# Altium schematic symbol library Sensor_Current.SchLib: 253 symbols (part 3 of 3)
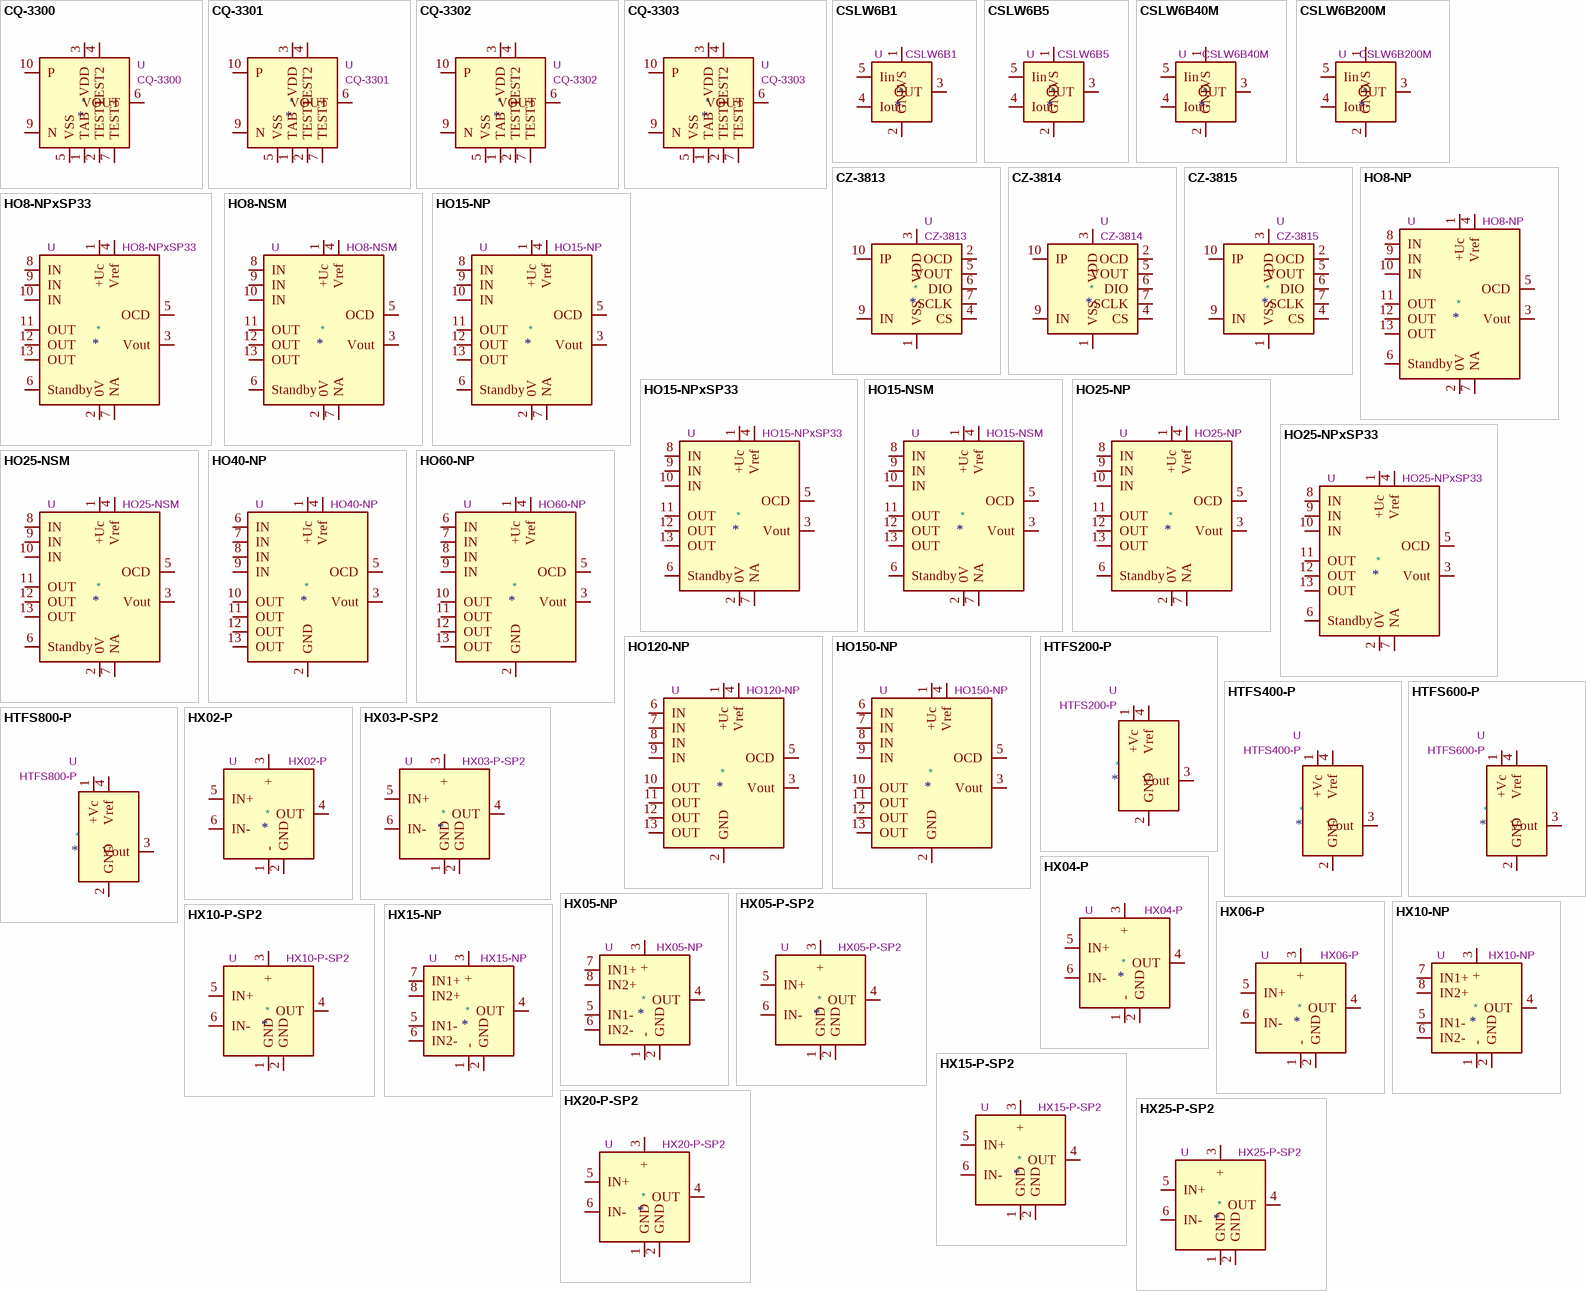
[diagram p8: symbols CQ-3300 to HX25-P-SP2]

## CSLW6B5
designator *  value CSLW6B5  Reference: U
ki_keywords: hall current sensor; ki_description: Miniature Wired Open-Loop Current Sensors, 5A; ki_fp_filters: Honeywell*CSLW*; Footprint: Sensor_Current:Honeywell_CSLW; Datasheet: https://sensing.honeywell.com/honeywell-sensing-cslw-series-product-sheet-005861-1-en.pdf
pins: 1 VS, 2 GND, 3 OUT, 4 Iout, 5 Iin

## CSLW6B40M
designator *  value CSLW6B40M  Reference: U
ki_keywords: hall current sensor; ki_description: Miniature Wired Open-Loop Current Sensors, 40mA; ki_fp_filters: Honeywell*CSLW*; Footprint: Sensor_Current:Honeywell_CSLW; Datasheet: https://sensing.honeywell.com/honeywell-sensing-cslw-series-product-sheet-005861-1-en.pdf
pins: 1 VS, 2 GND, 3 OUT, 4 Iout, 5 Iin

## CSLW6B200M
designator *  value CSLW6B200M  Reference: U
ki_keywords: hall current sensor; ki_description: Miniature Wired Open-Loop Current Sensors, 200mA; ki_fp_filters: Honeywell*CSLW*; Footprint: Sensor_Current:Honeywell_CSLW; Datasheet: https://sensing.honeywell.com/honeywell-sensing-cslw-series-product-sheet-005861-1-en.pdf
pins: 1 VS, 2 GND, 3 OUT, 4 Iout, 5 Iin

## CZ-3813
designator *  value CZ-3813  Reference: U
ki_keywords: hall effect current sensor; ki_description: Coreless Current Sensor, Bidirectional, -33.0A to +33.0A, 60mV/A, VSOP-24; ki_fp_filters: AKM*CZ*SSOP*6.5x8.1mm*P0.95mm*; Footprint: Sensor_Current:AKM_CZ_SSOP-10_6.5x8.1mm_P0.95mm; Datasheet: http://www.akm.com/akm/en/file/datasheet/CZ-3813.pdf
pins: 1 VSS, 2 OCD, 3 VDD, 4 CS, 5 VOUT, 6 DIO, 7 SCLK, 8 VSS hidden, 9 IN, 10 IP

## CZ-3814
designator *  value CZ-3814  Reference: U
ki_keywords: hall effect current sensor; ki_description: Coreless Current Sensor, Bidirectional, -50.0A to +50.0A, 40mV/A, VSOP-24; ki_fp_filters: AKM*CZ*SSOP*6.5x8.1mm*P0.95mm*; Footprint: Sensor_Current:AKM_CZ_SSOP-10_6.5x8.1mm_P0.95mm; Datasheet: http://www.akm.com/akm/en/file/datasheet/CZ-3814.pdf
pins: 1 VSS, 2 OCD, 3 VDD, 4 CS, 5 VOUT, 6 DIO, 7 SCLK, 8 VSS hidden, 9 IN, 10 IP

## CZ-3815
designator *  value CZ-3815  Reference: U
ki_keywords: hall effect current sensor; ki_description: Coreless Current Sensor, Bidirectional, -60.0A to +60.0A, 33mV/A, VSOP-24; ki_fp_filters: AKM*CZ*SSOP*6.5x8.1mm*P0.95mm*; Footprint: Sensor_Current:AKM_CZ_SSOP-10_6.5x8.1mm_P0.95mm; Datasheet: http://www.akm.com/akm/en/file/datasheet/CZ-3815.pdf
pins: 1 VSS, 2 OCD, 3 VDD, 4 CS, 5 VOUT, 6 DIO, 7 SCLK, 8 VSS hidden, 9 IN, 10 IP

## HO8-NP
designator *  value HO8-NP  Reference: U
ki_keywords: current transducer; ki_description: Current Transducer, 8A, Unipolar, 5V; ki_fp_filters: LEM*HO8*NP*; Footprint: Sensor_Current:LEM_HO8-NP; Datasheet: https://www.lem.com/sites/default/files/products_datasheets/ho-np-0000_series.pdf
pins: 1 +Uc, 2 0V, 3 Vout, 4 Vref, 5 OCD, 6 Standby, 7 NA, 8 IN, 9 IN, 10 IN, 11 OUT, 12 OUT, 13 OUT

## HO8-NPxSP33
designator *  value HO8-NPxSP33  Reference: U
ki_keywords: current transducer; ki_description: Current Transducer, 8A, Unipolar, 3.3V; ki_fp_filters: LEM*HO8*NP*; Footprint: Sensor_Current:LEM_HO8-NP; Datasheet: https://www.lem.com/sites/default/files/products_datasheets/ho-np_sp33-1000_series.pdf
pins: 1 +Uc, 2 0V, 3 Vout, 4 Vref, 5 OCD, 6 Standby, 7 NA, 8 IN, 9 IN, 10 IN, 11 OUT, 12 OUT, 13 OUT

## HO8-NSM
designator *  value HO8-NSM  Reference: U
ki_keywords: current transducer; ki_description: Current Transducer, 8A, Unipolar, 5V; ki_fp_filters: LEM*HO8*NSM*; Footprint: Sensor_Current:LEM_HO8-NSM; Datasheet: https://www.lem.com/sites/default/files/products_datasheets/ho-nsm-0000_series.pdf
pins: 1 +Uc, 2 0V, 3 Vout, 4 Vref, 5 OCD, 6 Standby, 7 NA, 8 IN, 9 IN, 10 IN, 11 OUT, 12 OUT, 13 OUT

## HO15-NP
designator *  value HO15-NP  Reference: U
ki_keywords: current transducer; ki_description: Current Transducer, 15A, Unipolar, 5V; ki_fp_filters: LEM*HO8*NP*; Footprint: Sensor_Current:LEM_HO8-NP; Datasheet: https://www.lem.com/sites/default/files/products_datasheets/ho-np-0000_series.pdf
pins: 1 +Uc, 2 0V, 3 Vout, 4 Vref, 5 OCD, 6 Standby, 7 NA, 8 IN, 9 IN, 10 IN, 11 OUT, 12 OUT, 13 OUT

## HO15-NPxSP33
designator *  value HO15-NPxSP33  Reference: U
ki_keywords: current transducer; ki_description: Current Transducer, 15A, Unipolar, 3.3V; ki_fp_filters: LEM*HO8*NP*; Footprint: Sensor_Current:LEM_HO8-NP; Datasheet: https://www.lem.com/sites/default/files/products_datasheets/ho-np_sp33-1000_series.pdf
pins: 1 +Uc, 2 0V, 3 Vout, 4 Vref, 5 OCD, 6 Standby, 7 NA, 8 IN, 9 IN, 10 IN, 11 OUT, 12 OUT, 13 OUT

## HO15-NSM
designator *  value HO15-NSM  Reference: U
ki_keywords: current transducer; ki_description: Current Transducer, 15A, Unipolar, 5V; ki_fp_filters: LEM*HO8*NSM*; Footprint: Sensor_Current:LEM_HO8-NSM; Datasheet: https://www.lem.com/sites/default/files/products_datasheets/ho-nsm-0000_series.pdf
pins: 1 +Uc, 2 0V, 3 Vout, 4 Vref, 5 OCD, 6 Standby, 7 NA, 8 IN, 9 IN, 10 IN, 11 OUT, 12 OUT, 13 OUT

## HO25-NP
designator *  value HO25-NP  Reference: U
ki_keywords: current transducer; ki_description: Current Transducer, 25A, Unipolar, 5V; ki_fp_filters: LEM*HO8*NP*; Footprint: Sensor_Current:LEM_HO8-NP; Datasheet: https://www.lem.com/sites/default/files/products_datasheets/ho-np-0000_series.pdf
pins: 1 +Uc, 2 0V, 3 Vout, 4 Vref, 5 OCD, 6 Standby, 7 NA, 8 IN, 9 IN, 10 IN, 11 OUT, 12 OUT, 13 OUT

## HO25-NPxSP33
designator *  value HO25-NPxSP33  Reference: U
ki_keywords: current transducer; ki_description: Current Transducer, 25A, Unipolar, 3.3V; ki_fp_filters: LEM*HO8*NP*; Footprint: Sensor_Current:LEM_HO8-NP; Datasheet: https://www.lem.com/sites/default/files/products_datasheets/ho-np_sp33-1000_series.pdf
pins: 1 +Uc, 2 0V, 3 Vout, 4 Vref, 5 OCD, 6 Standby, 7 NA, 8 IN, 9 IN, 10 IN, 11 OUT, 12 OUT, 13 OUT

## HO25-NSM
designator *  value HO25-NSM  Reference: U
ki_keywords: current transducer; ki_description: Current Transducer, 25A, Unipolar, 5V; ki_fp_filters: LEM*HO8*NSM*; Footprint: Sensor_Current:LEM_HO8-NSM; Datasheet: https://www.lem.com/sites/default/files/products_datasheets/ho-nsm-0000_series.pdf
pins: 1 +Uc, 2 0V, 3 Vout, 4 Vref, 5 OCD, 6 Standby, 7 NA, 8 IN, 9 IN, 10 IN, 11 OUT, 12 OUT, 13 OUT

## HO40-NP
designator *  value HO40-NP  Reference: U
ki_keywords: current transducer; ki_description: Current Transducer, 40A, Unipolar, 5V; ki_fp_filters: LEM*HO40*NP*; Footprint: Sensor_Current:LEM_HO40-NP; Datasheet: https://www.lem.com/sites/default/files/products_datasheets/ho-np_0100__1100_series.pdf
pins: 1 +Uc, 2 GND, 3 Vout, 4 Vref, 5 OCD, 6 IN, 7 IN, 8 IN, 9 IN, 10 OUT, 11 OUT, 12 OUT, 13 OUT

## HO60-NP
designator *  value HO60-NP  Reference: U
ki_keywords: current transducer; ki_description: Current Transducer, 60A, Unipolar, 5V; ki_fp_filters: LEM*HO40*NP*; Footprint: Sensor_Current:LEM_HO40-NP; Datasheet: https://www.lem.com/sites/default/files/products_datasheets/ho-np_0100__1100_series.pdf
pins: 1 +Uc, 2 GND, 3 Vout, 4 Vref, 5 OCD, 6 IN, 7 IN, 8 IN, 9 IN, 10 OUT, 11 OUT, 12 OUT, 13 OUT

## HO120-NP
designator *  value HO120-NP  Reference: U
ki_keywords: current transducer; ki_description: Current Transducer, 40A, Unipolar, 5V; ki_fp_filters: LEM*HO40*NP*; Footprint: Sensor_Current:LEM_HO40-NP; Datasheet: https://www.lem.com/sites/default/files/products_datasheets/ho-np_0100__1100_series.pdf
pins: 1 +Uc, 2 GND, 3 Vout, 4 Vref, 5 OCD, 6 IN, 7 IN, 8 IN, 9 IN, 10 OUT, 11 OUT, 12 OUT, 13 OUT

## HO150-NP
designator *  value HO150-NP  Reference: U
ki_keywords: current transducer; ki_description: Current Transducer, 40A, Unipolar, 5V; ki_fp_filters: LEM*HO40*NP*; Footprint: Sensor_Current:LEM_HO40-NP; Datasheet: https://www.lem.com/sites/default/files/products_datasheets/ho-np_0100__1100_series.pdf
pins: 1 +Uc, 2 GND, 3 Vout, 4 Vref, 5 OCD, 6 IN, 7 IN, 8 IN, 9 IN, 10 OUT, 11 OUT, 12 OUT, 13 OUT

## HTFS200-P
designator *  value HTFS200-P  Reference: U
ki_keywords: current transducer; ki_description: Current Transducer, 200A, Unipolar, 5V; ki_fp_filters: LEM*HTFS*; Footprint: Sensor_Current:LEM_HTFS; Datasheet: https://www.lem.com/sites/default/files/products_datasheets/htfs_200_800-p.pdf
pins: 1 +Vc, 2 GND, 3 Vout, 4 Vref

## HTFS400-P
designator *  value HTFS400-P  Reference: U
ki_keywords: current transducer; ki_description: Current Transducer, 400A, Unipolar, 5V; ki_fp_filters: LEM*HTFS*; Footprint: Sensor_Current:LEM_HTFS; Datasheet: https://www.lem.com/sites/default/files/products_datasheets/htfs_200_800-p.pdf
pins: 1 +Vc, 2 GND, 3 Vout, 4 Vref

## HTFS600-P
designator *  value HTFS600-P  Reference: U
ki_keywords: current transducer; ki_description: Current Transducer, 600A, Unipolar, 5V; ki_fp_filters: LEM*HTFS*; Footprint: Sensor_Current:LEM_HTFS; Datasheet: https://www.lem.com/sites/default/files/products_datasheets/htfs_200_800-p.pdf
pins: 1 +Vc, 2 GND, 3 Vout, 4 Vref

## HTFS800-P
designator *  value HTFS800-P  Reference: U
ki_keywords: current transducer; ki_description: Current Transducer, 800A, Unipolar, 5V; ki_fp_filters: LEM*HTFS*; Footprint: Sensor_Current:LEM_HTFS; Datasheet: https://www.lem.com/sites/default/files/products_datasheets/htfs_200_800-p.pdf
pins: 1 +Vc, 2 GND, 3 Vout, 4 Vref

## HX02-P
designator *  value HX02-P  Reference: U
ki_keywords: current transducer; ki_description: Current Transducer, 2A, Bipolar, +/-15V; ki_fp_filters: LEM*HX02*P*; Footprint: Sensor_Current:LEM_HX02-P; Datasheet: https://www.lem.com/sites/default/files/products_datasheets/hx%202_6-p_e%20v5.pdf
pins: 1 -, 2 GND, 3 +, 4 OUT, 5 IN+, 6 IN-

## HX03-P-SP2
designator *  value HX03-P-SP2  Reference: U
ki_keywords: current transducer; ki_description: Current Transducer, 3A, Unipolar, +/-15V; ki_fp_filters: LEM*HX03*P*SP2*; Footprint: Sensor_Current:LEM_HX03-P-SP2; Datasheet: https://www.lem.com/sites/default/files/products_datasheets/hx%203_50-p_sp2_e%20v07.pdf
pins: 1 GND, 2 GND, 3 +, 4 OUT, 5 IN+, 6 IN-

## HX04-P
designator *  value HX04-P  Reference: U
ki_keywords: current transducer; ki_description: Current Transducer, 4A, Bipolar, +/-15V; ki_fp_filters: LEM*HX04*P*; Footprint: Sensor_Current:LEM_HX04-P; Datasheet: https://www.lem.com/sites/default/files/products_datasheets/hx%202_6-p_e%20v5.pdf
pins: 1 -, 2 GND, 3 +, 4 OUT, 5 IN+, 6 IN-

## HX05-NP
designator *  value HX05-NP  Reference: U
ki_keywords: current transducer; ki_description: Current Transducer, 5A, Bipolar, +/-15V; ki_fp_filters: LEM*HX05*NP*; Footprint: Sensor_Current:LEM_HX05-NP; Datasheet: https://www.lem.com/sites/default/files/products_datasheets/hx%205_15-np_e%20v10.pdf
pins: 1 -, 2 GND, 3 +, 4 OUT, 5 IN1-, 6 IN2-, 7 IN1+, 8 IN2+

## HX05-P-SP2
designator *  value HX05-P-SP2  Reference: U
ki_keywords: current transducer; ki_description: Current Transducer, 5A, Unipolar, +/-15V; ki_fp_filters: LEM*HX05*P*SP2*; Footprint: Sensor_Current:LEM_HX05-P-SP2; Datasheet: https://www.lem.com/sites/default/files/products_datasheets/hx%203_50-p_sp2_e%20v07.pdf
pins: 1 GND, 2 GND, 3 +, 4 OUT, 5 IN+, 6 IN-

## HX06-P
designator *  value HX06-P  Reference: U
ki_keywords: current transducer; ki_description: Current Transducer, 6A, Bipolar, +/-15V; ki_fp_filters: LEM*HX06*P*; Footprint: Sensor_Current:LEM_HX06-P; Datasheet: https://www.lem.com/sites/default/files/products_datasheets/hx%202_6-p_e%20v5.pdf
pins: 1 -, 2 GND, 3 +, 4 OUT, 5 IN+, 6 IN-

## HX10-NP
designator *  value HX10-NP  Reference: U
ki_keywords: current transducer; ki_description: Current Transducer, 10A, Bipolar, +/-15V; ki_fp_filters: LEM*HX10*NP*; Footprint: Sensor_Current:LEM_HX10-NP; Datasheet: https://www.lem.com/sites/default/files/products_datasheets/hx%205_15-np_e%20v10.pdf
pins: 1 -, 2 GND, 3 +, 4 OUT, 5 IN1-, 6 IN2-, 7 IN1+, 8 IN2+

## HX10-P-SP2
designator *  value HX10-P-SP2  Reference: U
ki_keywords: current transducer; ki_description: Current Transducer, 10A, Unipolar, +/-15V; ki_fp_filters: LEM*HX10*P*SP2*; Footprint: Sensor_Current:LEM_HX10-P-SP2; Datasheet: https://www.lem.com/sites/default/files/products_datasheets/hx%203_50-p_sp2_e%20v07.pdf
pins: 1 GND, 2 GND, 3 +, 4 OUT, 5 IN+, 6 IN-

## HX15-NP
designator *  value HX15-NP  Reference: U
ki_keywords: current transducer; ki_description: Current Transducer, 15A, Bipolar, +/-15V; ki_fp_filters: LEM*HX15*NP*; Footprint: Sensor_Current:LEM_HX15-NP; Datasheet: https://www.lem.com/sites/default/files/products_datasheets/hx%205_15-np_e%20v10.pdf
pins: 1 -, 2 GND, 3 +, 4 OUT, 5 IN1-, 6 IN2-, 7 IN1+, 8 IN2+

## HX15-P-SP2
designator *  value HX15-P-SP2  Reference: U
ki_keywords: current transducer; ki_description: Current Transducer, 15A, Unipolar, +/-15V; ki_fp_filters: LEM*HX15*P*SP2*; Footprint: Sensor_Current:LEM_HX15-P-SP2; Datasheet: https://www.lem.com/sites/default/files/products_datasheets/hx%203_50-p_sp2_e%20v07.pdf
pins: 1 GND, 2 GND, 3 +, 4 OUT, 5 IN+, 6 IN-

## HX20-P-SP2
designator *  value HX20-P-SP2  Reference: U
ki_keywords: current transducer; ki_description: Current Transducer, 20A, Unipolar, +/-15V; ki_fp_filters: LEM*HX20*P*SP2*; Footprint: Sensor_Current:LEM_HX20-P-SP2; Datasheet: https://www.lem.com/sites/default/files/products_datasheets/hx%203_50-p_sp2_e%20v07.pdf
pins: 1 GND, 2 GND, 3 +, 4 OUT, 5 IN+, 6 IN-

## HX25-P-SP2
designator *  value HX25-P-SP2  Reference: U
ki_keywords: current transducer; ki_description: Current Transducer, 25A, Unipolar, +/-15V; ki_fp_filters: LEM*HX25*P*SP2*; Footprint: Sensor_Current:LEM_HX25-P-SP2; Datasheet: https://www.lem.com/sites/default/files/products_datasheets/hx%203_50-p_sp2_e%20v07.pdf
pins: 1 GND, 2 GND, 3 +, 4 OUT, 5 IN+, 6 IN-

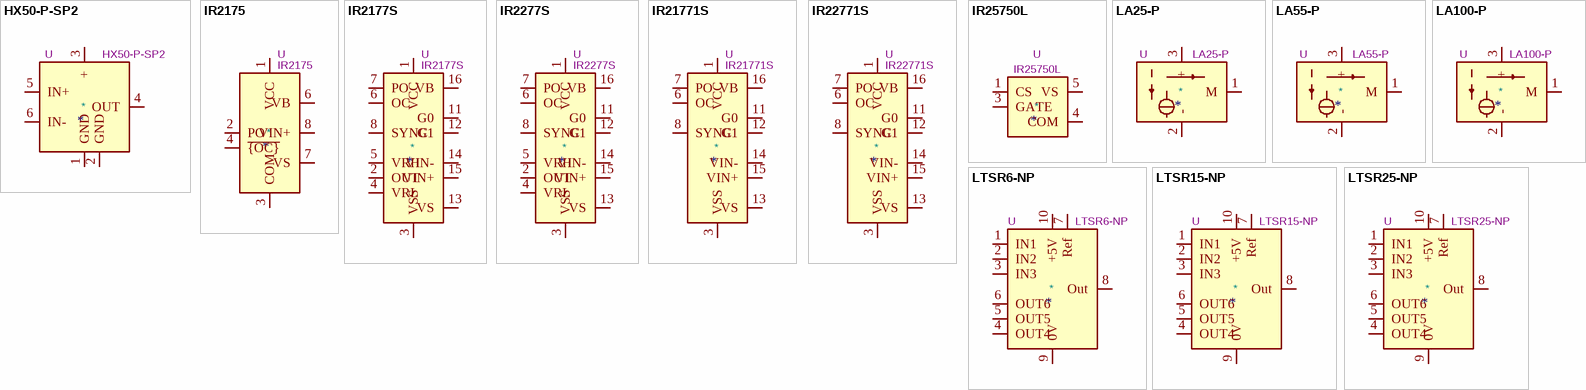
[diagram p6: symbols HX50-P-SP2 to LTSR25-NP]

## HX50-P-SP2
designator *  value HX50-P-SP2  Reference: U
ki_keywords: current transducer; ki_description: Current Transducer, 50A, Unipolar, +/-15V; ki_fp_filters: LEM*HX50*P*SP2*; Footprint: Sensor_Current:LEM_HX50-P-SP2; Datasheet: https://www.lem.com/sites/default/files/products_datasheets/hx%203_50-p_sp2_e%20v07.pdf
pins: 1 GND, 2 GND, 3 +, 4 OUT, 5 IN+, 6 IN-

## IR2175
designator *  value IR2175  Reference: U
ki_keywords: half bridge current sense; ki_description: Linear Current Sensing IC, PWM output, 600V, PDIP-8/SOIC-8; ki_fp_filters: SOIC*3.9x4.9mm*P1.27mm* DIP*W7.62mm*; Datasheet: https://www.infineon.com/dgdl/ir2175.pdf?fileId=5546d462533600a4015355c9161216c6
pins: 1 VCC, 2 PO, 3 COM, 4 ~{{OC}}, 5 NC hidden, 6 VB, 7 VS, 8 VIN+

## IR2177S
designator *  value IR2177S  Reference: U
ki_keywords: half bridge current sense; ki_description: Phase Current Sensor IC for AC Motor Control, PWM and ADC output, 600V, SOIC-16W; ki_fp_filters: SOIC*W*7.5x10.3mm*P1.27mm*; Footprint: Package_SO:SOIC-16W_7.5x10.3mm_P1.27mm; Datasheet: https://www.infineon.com/dgdl/ir2177s.pdf?fileId=5546d462533600a4015355c92e7416cb
pins: 1 VCC, 2 OUT, 3 VSS, 4 VRL, 5 VRH, 6 OC, 7 PO, 8 SYNC, 9 NC hidden, 10 NC hidden, 11 G0, 12 G1, 13 VS, 14 VIN-, 15 VIN+, 16 VB

## IR2277S
designator *  value IR2277S  Reference: U
ki_keywords: half bridge current sense; ki_description: Phase Current Sensor IC for AC Motor Control, PWM and ADC output, 1200V, SOIC-16W; ki_fp_filters: SOIC*W*7.5x10.3mm*P1.27mm*; Footprint: Package_SO:SOIC-16W_7.5x10.3mm_P1.27mm; Datasheet: https://www.infineon.com/dgdl/ir2177s.pdf?fileId=5546d462533600a4015355c92e7416cb
pins: 1 VCC, 2 OUT, 3 VSS, 4 VRL, 5 VRH, 6 OC, 7 PO, 8 SYNC, 9 NC hidden, 10 NC hidden, 11 G0, 12 G1, 13 VS, 14 VIN-, 15 VIN+, 16 VB

## IR21771S
designator *  value IR21771S  Reference: U
ki_keywords: half bridge current sense; ki_description: Phase Current Sensor IC for AC Motor Control, PWM output, 600V, SOIC-16W; ki_fp_filters: SOIC*W*7.5x10.3mm*P1.27mm*; Footprint: Package_SO:SOIC-16W_7.5x10.3mm_P1.27mm; Datasheet: https://www.infineon.com/dgdl/ir21771s.pdf?fileId=5546d462533600a4015355c9222c16c8
pins: 1 VCC, 2 NC hidden, 3 VSS, 4 NC hidden, 5 NC hidden, 6 OC, 7 PO, 8 SYNC, 9 NC hidden, 10 NC hidden, 11 G0, 12 G1, 13 VS, 14 VIN-, 15 VIN+, 16 VB

## IR22771S
designator *  value IR22771S  Reference: U
ki_keywords: half bridge current sense; ki_description: Phase Current Sensor IC for AC Motor Control, PWM output, 1200V, SOIC-16W; ki_fp_filters: SOIC*W*7.5x10.3mm*P1.27mm*; Footprint: Package_SO:SOIC-16W_7.5x10.3mm_P1.27mm; Datasheet: https://www.infineon.com/dgdl/ir21771s.pdf?fileId=5546d462533600a4015355c9222c16c8
pins: 1 VCC, 2 NC hidden, 3 VSS, 4 NC hidden, 5 NC hidden, 6 OC, 7 PO, 8 SYNC, 9 NC hidden, 10 NC hidden, 11 G0, 12 G1, 13 VS, 14 VIN-, 15 VIN+, 16 VB

## IR25750L
designator *  value IR25750L  Reference: U
ki_keywords: single current sense; ki_description: Current Sensing IC, 600V, SOT-23-5; ki_fp_filters: SOT?23*; Footprint: Package_TO_SOT_SMD:SOT-23-5; Datasheet: https://www.infineon.com/dgdl/ir25750lpbf.pdf?fileId=5546d462533600a4015355ca1d0e16f7
pins: 1 CS, 2 NC hidden, 3 GATE, 4 COM, 5 VS

## LA25-P
designator *  value LA25-P  Reference: U
ki_keywords: current transducer; ki_description: Current Transducer, 25A, Bipolar, +/-15V; ki_fp_filters: LEM*LA25*P*; Footprint: Sensor_Current:LEM_LA25-P; Datasheet: https://www.lem.com/sites/default/files/products_datasheets/la_25-p.pdf
pins: 1 M, 2 -, 3 +

## LA55-P
designator *  value LA55-P  Reference: U
ki_keywords: current transducer; ki_description: Current Transducer, 50A, Bipolar, +/-15V; ki_fp_filters: LEM*LA25*P*; Footprint: Sensor_Current:LEM_LA25-P; Datasheet: https://www.lem.com/sites/default/files/products_datasheets/la_55-p_e.pdf
pins: 1 M, 2 -, 3 +

## LA100-P
designator *  value LA100-P  Reference: U
ki_keywords: current transducer; ki_description: Current Transducer, 100A, Bipolar, +/-15V; ki_fp_filters: LEM*LA25*P*; Footprint: Sensor_Current:LEM_LA25-P; Datasheet: https://www.lem.com/sites/default/files/products_datasheets/la_100-p_e_.pdf
pins: 1 M, 2 -, 3 +

## LTSR6-NP
designator *  value LTSR6-NP  Reference: U
ki_keywords: current transducer; ki_description: Current Transducer, Unipolar, 6A, 5V supply, DC, AC, pulsed; ki_fp_filters: LEM*LTSR*NP*; Footprint: Sensor_Current:LEM_LTSR-NP; Datasheet: https://www.lem.com/sites/default/files/products_datasheets/ltsr_6-np.pdf
pins: 1 IN1, 2 IN2, 3 IN3, 4 OUT4, 5 OUT5, 6 OUT6, 7 Ref, 8 Out, 9 0V, 10 +5V

## LTSR15-NP
designator *  value LTSR15-NP  Reference: U
ki_keywords: current transducer; ki_description: Current Transducer, Unipolar, 15A, 5V supply, DC, AC, pulsed; ki_fp_filters: LEM*LTSR*NP*; Footprint: Sensor_Current:LEM_LTSR-NP; Datasheet: https://www.lem.com/sites/default/files/products_datasheets/ltsr_15-np.pdf
pins: 1 IN1, 2 IN2, 3 IN3, 4 OUT4, 5 OUT5, 6 OUT6, 7 Ref, 8 Out, 9 0V, 10 +5V

## LTSR25-NP
designator *  value LTSR25-NP  Reference: U
ki_keywords: current transducer; ki_description: Current Transducer, Unipolar, 25A, 5V supply, DC, AC, pulsed; ki_fp_filters: LEM*LTSR*NP*; Footprint: Sensor_Current:LEM_LTSR-NP; Datasheet: https://www.lem.com/sites/default/files/products_datasheets/ltsr_25-np.pdf
pins: 1 IN1, 2 IN2, 3 IN3, 4 OUT4, 5 OUT5, 6 OUT6, 7 Ref, 8 Out, 9 0V, 10 +5V